# Altium footprint library PcbLib1.PcbLib: 24 footprints (part 2 of 2)
Each footprint in its own frame and in the unit in brackets; x right, y up, seen from the top. Pads: shape width x height; smd on the part's side, far side on the other; paste and mask are expansions set on the pad; w line width, h text height; cw(c..) or ccw(c..) is an arc to the next point about the centre after c.
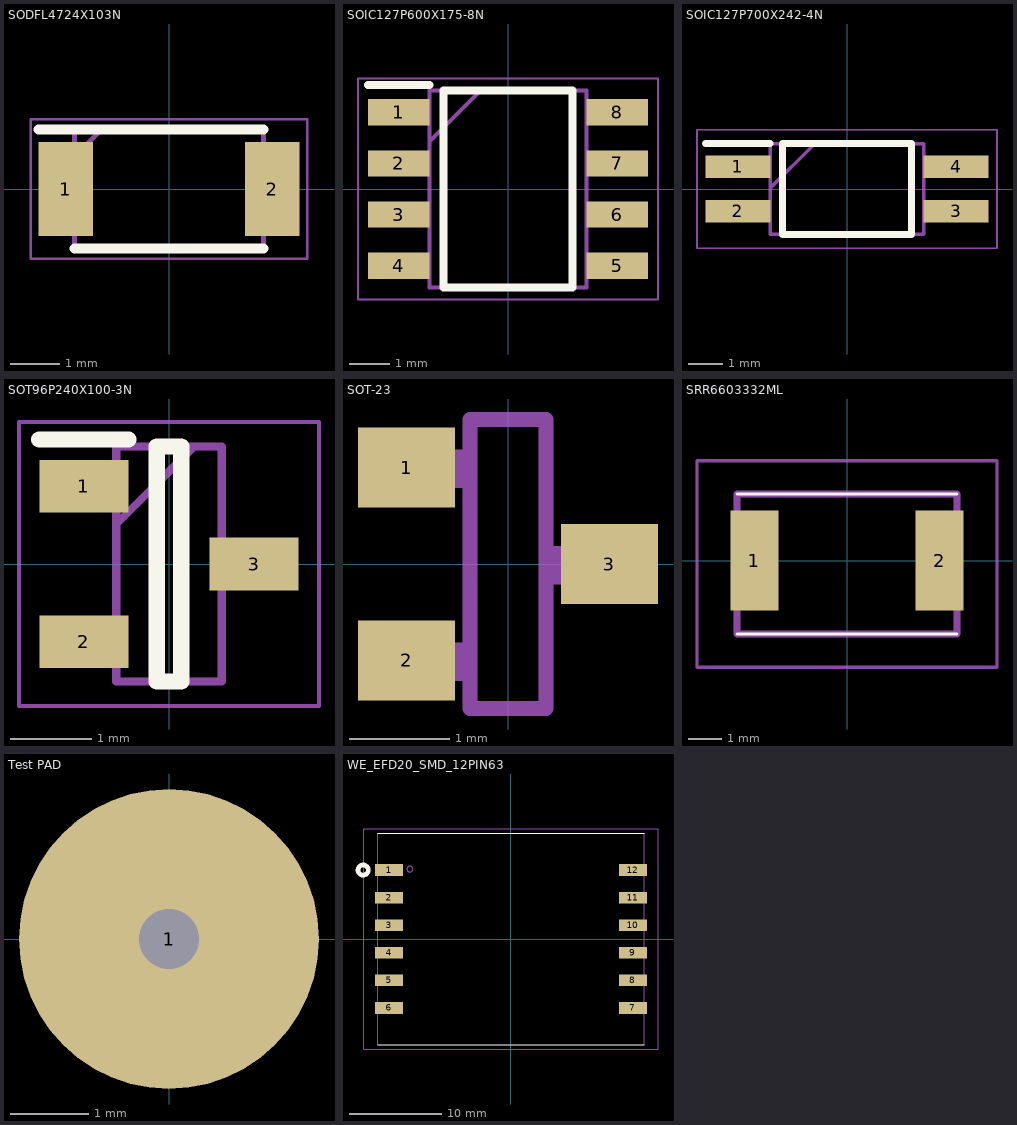
[diagram p1: the footprints below, top view; thin cyan lines are the x and y axes]

## SODFL4724X103N [mm]
pads (2):
  rect 1.1x1.88 smd: 1(-2.075,0) 2(2.075,0)
Top Overlay:
  lines w0.2: -2.625,1.2 1.9,1.2 ; -1.9,-1.2 1.9,-1.2
Mechanical 13:
  lines w0.1: -1.9,0.65 -1.35,1.2 ; -1.9,-1.2 -1.9,1.2 1.9,1.2 1.9,-1.2 -1.9,-1.2
Mechanical 15:
  lines w0.05: -2.775,-1.4 -2.775,1.4 2.775,1.4 2.775,-1.4 -2.775,-1.4
3D body "STPST5H100AF.stp": height 1.03, standoff 0, extent -2.35,-1.2 2.35,1.2

## SOIC127P600X175-8N [mm]
pads (8):
  rect 1.525x0.65 smd: 1(-2.712,1.905) 2(-2.712,0.635) 3(-2.712,-0.635) 4(-2.712,-1.905) 5(2.712,-1.905) 6(2.712,-0.635) 7(2.712,0.635) 8(2.712,1.905)
Top Overlay:
  lines w0.2: -3.475,2.58 -1.95,2.58 ; -1.6,-2.45 1.6,-2.45 1.6,2.45 -1.6,2.45 -1.6,-2.45
Mechanical 13:
  lines w0.1: -1.95,1.18 -0.68,2.45 ; -1.95,-2.45 1.95,-2.45 1.95,2.45 -1.95,2.45 -1.95,-2.45
Mechanical 15:
  lines w0.05: -3.725,-2.75 3.725,-2.75 3.725,2.75 -3.725,2.75 -3.725,-2.75
3D body "NE555DR.stp": height 1.75, standoff 0, extent -3,-2.45 3,2.45

## SOIC127P700X242-4N [mm]
pads (4):
  rect 1.85x0.65 smd: 1(-3.125,0.635) 2(-3.125,-0.635) 3(3.125,-0.635) 4(3.125,0.635)
Top Overlay:
  lines w0.2: -4.05,1.31 -2.2,1.31 ; -1.85,-1.3 -1.85,1.3 1.85,1.3 1.85,-1.3 -1.85,-1.3
Mechanical 13:
  lines w0.1: -2.2,0.03 -0.93,1.3 ; -2.2,-1.3 -2.2,1.3 2.2,1.3 2.2,-1.3 -2.2,-1.3
Mechanical 15:
  lines w0.05: -4.3,-1.7 -4.3,1.7 4.3,1.7 4.3,-1.7 -4.3,-1.7
3D body "ACPL-217-56AE.stp": height 2.42, standoff 0, extent -3.5,-1.3 3.5,1.3

## SOT96P240X100-3N [mm]
pads (3):
  rect 1.1x0.65 smd: 1(-1.05,0.96) 2(-1.05,-0.96) 3(1.05,0)
Top Overlay:
  lines w0.2: -1.6,1.535 -0.5,1.535 ; -0.15,-1.45 -0.15,1.45 0.15,1.45 0.15,-1.45 -0.15,-1.45
Mechanical 13:
  lines w0.1: -0.65,0.49 0.31,1.45 ; -0.65,-1.45 -0.65,1.45 0.65,1.45 0.65,-1.45 -0.65,-1.45
Mechanical 15:
  lines w0.05: -1.85,-1.75 -1.85,1.75 1.85,1.75 1.85,-1.75 -1.85,-1.75
3D body "TLV431BFTA.stp": height 1, standoff 0, extent -1.2,-1.45 1.2,1.45

## SOT-23 [mil]
pads (3):
  rect 38.27x31.57 smd: 1(-40,38) 2(-40,-38) 3(40,0)
Mechanical 13:
  region: -17,30 -37,30 -37,45 -17,45
  region: -17,-46 -37,-46 -37,-31 -17,-31
  region: 37,-8 17,-8 17,7 37,7
  lines w6: -15,-57 -15,57 15,57 15,-57 -15,-57
3D body "step_temp.STEP": height 44.09, standoff 0, extent -46.65,-57.48 46.65,57.48

## SRR6603332ML [mm]
pads (2):
  rect 1.45x3 smd: 1(-2.775,0) 2(2.775,0)
Top Overlay:
  lines w0.1: -3.3,-2.2 3.3,-2.2 ; -3.3,2 3.3,2
Mechanical 13:
  lines w0.2: -3.3,-2.2 3.3,-2.2 3.3,2 -3.3,2 -3.3,-2.2
Mechanical 15:
  lines w0.1: -4.5,-3.2 4.5,-3.2 4.5,3 -4.5,3 -4.5,-3.2
3D body "SRR6603-103ML.stp": height 3, standoff 0, extent -3.3,-2.3 3.3,2.1

## Test PAD [mil]
pads (1):
  round 150 hole 30: 1(0,0)

## WE_EFD20_SMD_12PIN63 [mm]
pads (12):
  rect 3.05x1.27 smd: 1(-13.26,7.5) 2(-13.26,4.5) 3(-13.26,1.5) 4(-13.26,-1.5) 5(-13.26,-4.5) 6(-13.26,-7.5) 7(13.26,-7.5) 8(13.26,-4.5) 9(13.26,-1.5) 10(13.26,1.5) 11(13.26,4.5) 12(13.26,7.5)
Top Overlay:
  circle w0.508: c-16.085,7.5 r0.557
  lines w0.127: -14.5,-11.5 14.5,-11.5 ; -14.5,11.5 14.5,11.5
Mechanical 13:
  circle w0.127: c-11,7.6 r0.316
  lines w0.127: -14.5,-11.5 -14.5,11.5 ; 14.5,-11.5 14.5,11.5
Mechanical 15:
  lines w0.127: -16,-12 16,-12 16,12 -16,12 -16,-12
3D body "7491194912.stp": height 11.43, standoff 0, extent -14.54,-10 14.54,10